# EAGLE library part FAMICOM-CART-PORT (library 0000 - @rsandor parts)
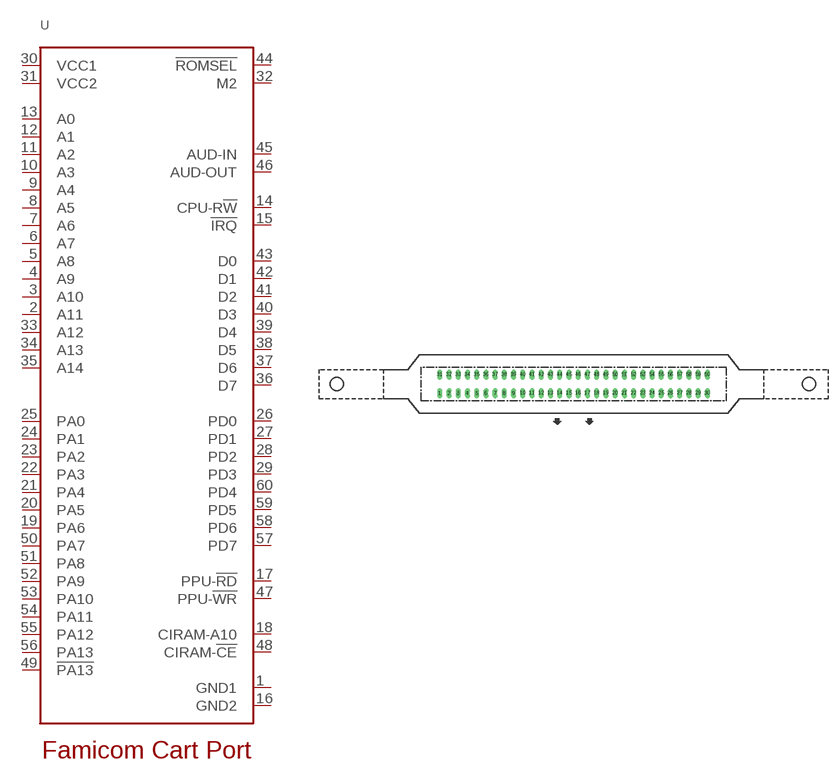
[diagram p6: symbol with the pads of FAMICOM-CART-PORT; footprint FAMICOM-CART-PORT]

Designator prefix -

## FAMICOM-CART-PORT  [FAMICOM-CART-PORT]
1  GND1
2  A11
3  A10
4  A9
5  A8
6  A7
7  A6
8  A5
9  A4
10  A3
11  A2
12  A1
13  A0
14  CPU-R!W
15  !IRQ
16  GND2
17  PPU-!RD
18  CIRAM-A10
19  PA6
20  PA5
21  PA4
22  PA3
23  PA2
24  PA1
25  PA0
26  PD0
27  PD1
28  PD2
29  PD3
30  VCC1
31  VCC2
32  M2
33  A12
34  A13
35  A14
36  D7
37  D6
38  D5
39  D4
40  D3
41  D2
42  D1
43  D0
44  !ROMSEL
45  AUD-IN
46  AUD-OUT
47  PPU-!WR
48  CIRAM-!CE
49  !PA13
50  PA7
51  PA8
52  PA9
53  PA10
54  PA11
55  PA12
56  PA13
57  PD7
58  PD6
59  PD5
60  PD4

## Footprint FAMICOM-CART-PORT (pad centres in mm)
drill 0.9 long: 1 -36.83,-2.54; 2 -34.29,-2.54; 3 -31.75,-2.54; 4 -29.21,-2.54; 5 -26.67,-2.54; 6 -24.13,-2.54; 7 -21.59,-2.54; 8 -19.05,-2.54; 9 -16.51,-2.54; 10 -13.97,-2.54; 11 -11.43,-2.54; 12 -8.89,-2.54; 13 -6.35,-2.54; 14 -3.81,-2.54; 15 -1.27,-2.54; 16 1.27,-2.54; 17 3.81,-2.54; 18 6.35,-2.54; 19 8.89,-2.54; 20 11.43,-2.54; 21 13.97,-2.54; 22 16.51,-2.54; 23 19.05,-2.54; 24 21.59,-2.54; 25 24.13,-2.54; 26 26.67,-2.54; 27 29.21,-2.54; 28 31.75,-2.54; 29 34.29,-2.54; 30 36.83,-2.54; 31 -36.83,2.54; 32 -34.29,2.54; 33 -31.75,2.54; 34 -29.21,2.54; 35 -26.67,2.54; 36 -24.13,2.54; 37 -21.59,2.54; 38 -19.05,2.54; 39 -16.51,2.54; 40 -13.97,2.54; 41 -11.43,2.54; 42 -8.89,2.54; 43 -6.35,2.54; 44 -3.81,2.54; 45 -1.27,2.54; 46 1.27,2.54; 47 3.81,2.54; 48 6.35,2.54; 49 8.89,2.54; 50 11.43,2.54; 51 13.97,2.54; 52 16.51,2.54; 53 19.05,2.54; 54 21.59,2.54; 55 24.13,2.54; 56 26.67,2.54; 57 29.21,2.54; 58 31.75,2.54; 59 34.29,2.54; 60 36.83,2.54